# Altium schematic symbol library lab3.SchLib: 16 symbols
Pins are listed as number, name and electrical type; pins without a type are passive.

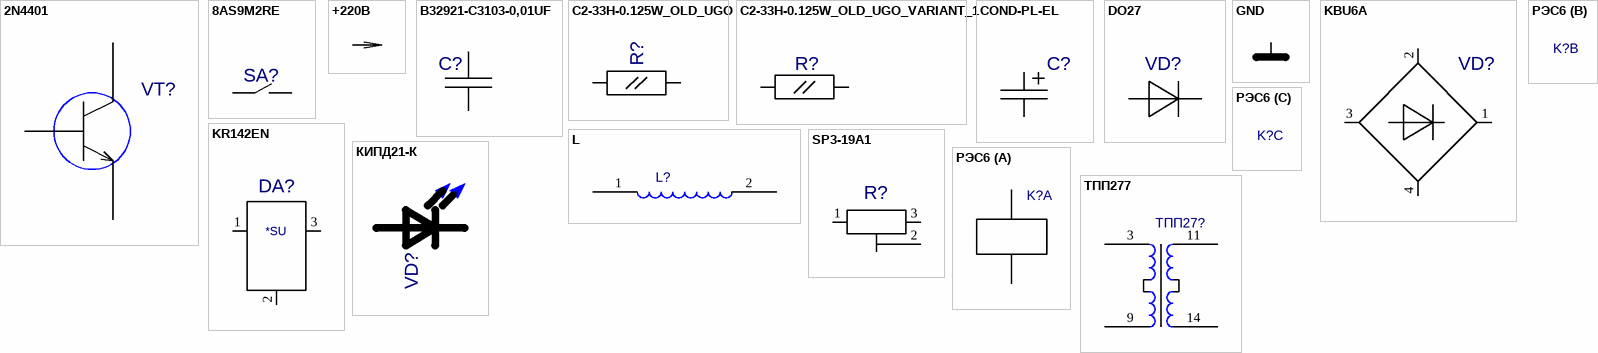
[diagram p0: symbols 2N4401 to ТПП277]

## 2N4401
designator VT?  (value not drawn)
Value: *
footprint TO-92-1
pins: 1 E, 2 B, 3 K

## 8AS9M2RE
designator SA?  (value not drawn)
Value: *
footprint 8AS9M2RE
pins: 1, 2

## +220B
designator PWR?  (value not drawn)
Value: *
pins: 1 +220B (power)

## B32921-C3103-0,01UF
designator C?  (value not drawn)
Value: *
footprint B32921(13X4)
pins: 1, 2

## C2-33H-0.125W_OLD_UGO
designator R?  (value not drawn)
Value: *
footprint C2-33H-0.125W
pins: 1, 2

## C2-33H-0.125W_OLD_UGO_VARIANT_1
designator R?, comment C2-33H-0.125W_OLD_UGO  (value not drawn)
C2-33H-0.125W_OLD_UGO_VARIANT_1; Value: *
footprint C2-33H-0.125W
pins: 1, 2

## COND-PL-EL
designator C?  (value not drawn)
Value: *
footprint CC-PL-EL1
pins: 1 i/o, 2 i/o1

## DO27
designator VD?  (value not drawn)
Value: *
footprint DO27
pins: 1 I/O1, 2 I/O2

## GND
designator PWR?  (value not drawn)
Value: *
pins: 1 GND (power)

## KBU6A
designator VD?  (value not drawn)
Value: *
footprint KBU6A
pins: 1, 2, 3, 4

## KR142EN
designator DA?  (value not drawn)
Value: *
footprint KR142EN
pins: 1 IN0, 2 GND0, 3 OUT0
text: *SU

## L
designator L?  (value not drawn)
Value: *
footprint L
pins: 1, 2

## SP3-19A1
designator R?  (value not drawn)
Value: *
footprint SP3-19A1
pins: 1 I/O1, 2 I/O2, 3 I/O3

## КИПД21-К
designator VD?  (value not drawn)
Value: *
footprint LED-5MM
pins: 1 A, 2 K

## РЭС6
designator K?  (value not drawn)
Value: *
footprint РЭС6
part A pins: 7 1, 8 3

## ТПП277
designator ТПП27?  (value not drawn)
Value: *
footprint ТПП
pins: 3, 9, 11, 14